# Altium footprint library Cliff.PcbLib: 1 footprints
Each footprint in its own frame and in the unit in brackets; x right, y up, seen from the top. Pads: shape width x height; smd on the part's side, far side on the other; paste and mask are expansions set on the pad; w line width, h text height; cw(c..) or ccw(c..) is an arc to the next point about the centre after c.
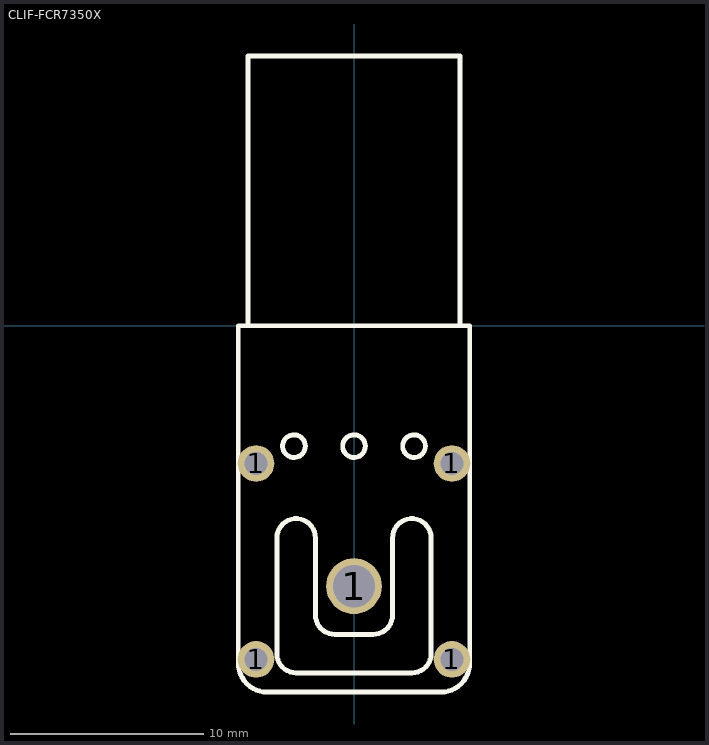
[diagram p0: the footprint, top view; thin cyan lines are the x and y axes]

## CLIF-FCR7350X [mm] "CLIFF ELECTRONIC COMPONENTS  FCR7350B  SOCKET, PCB, 4MM, R/A, S16N-PC"
height 11.5
pads (5):
  round 1.9 hole 1.2: 1(-5.08,-17.3) 1(-5.08,-7.14) 1(5.08,-17.3) 1(5.08,-7.14)
  round 2.9 hole 2.2: 1(0,-13.5)
Top Overlay:
  circle w0.254: c0,-6.242 r0.588
  circle w0.254: c-3.113,-6.242 r0.588
  circle w0.254: c3.113,-6.242 r0.588
  lines w0.254: -5.5,0 -5.5,14 5.5,14 5.5,0 ; -2,-15 ccw(c-1,-15) -1,-16 1,-16 ccw(c1,-15) 2,-15 ; -2,-15 -2,-15 ; -2,-15 -2,-15 ; -2,-15 -2,-11 ccw(c-3,-11) -4,-11 -4,-17 ccw(c-3,-17) -3,-18 3,-18 ccw(c3,-17) 4,-17 4,-11 ccw(c3,-11) 2,-11 2,-15 ; 2,-15 2,-15 ; 2,-15 2,-15 ; -6,-17.5 ccw(c-4.5,-17.5) -4.5,-19 4.5,-19 ccw(c4.5,-17.5) 6,-17.5 6,0 -6,0 -6,-17.5
3D body: height 12.3, standoff -2.7, extent -6,-19 6,14